# Altium integrated library TI Digital Signal Processor 16-Bit.IntLib: 40 symbols (part 2 of 2)
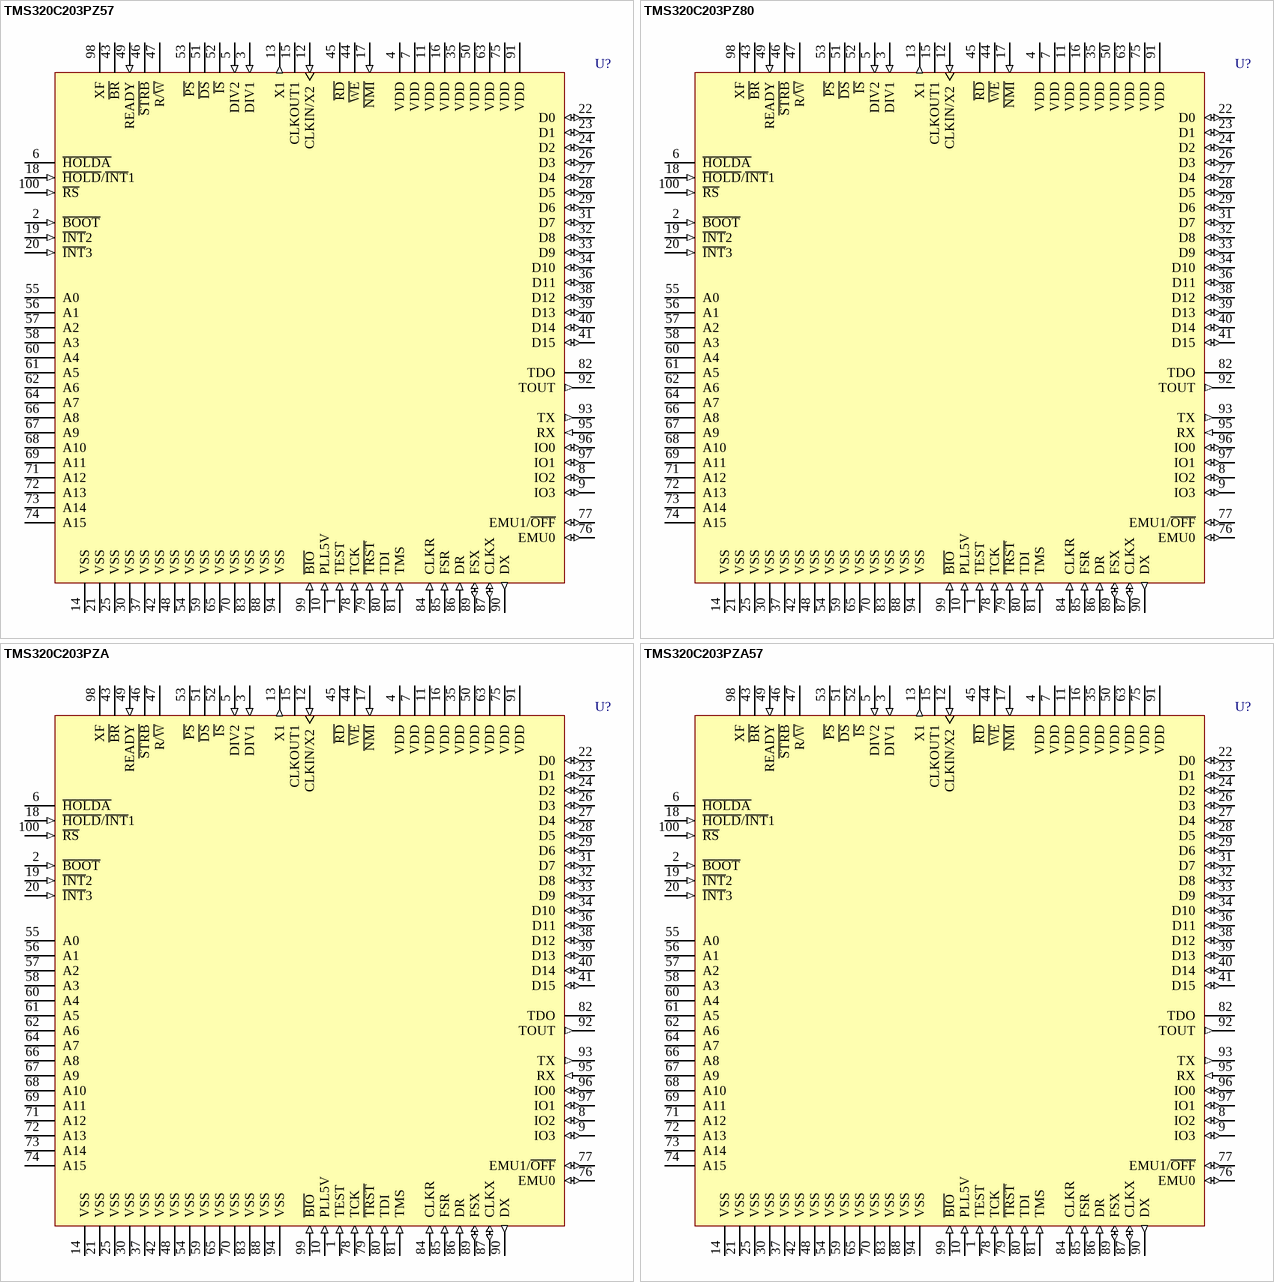
[diagram p11: symbols TMS320C203PZ57 to TMS320C203PZA57]

## TMS320C203PZ80
designator U?
Fixed DSP; Published: 25-Jan-2001; LatestRevisionDate: 13-Apr-2006; LatestRevisionNote: IPC-7351 Footprint Added.; DatasheetVersion: Aug-1998; PackageVersion: Dec-1996; PackageReference: PZ100; Publisher: Altium Limited; PackageDescription: 100-Pin Thin Quad Flat Pack 0.5 mm Pitch; ComponentLink1Description: Manufacturer Link; ComponentLink1URL: http://www.ti.com/; ComponentLink2Description: Datasheet; ComponentLink2URL: http://www-s.ti.com/sc/ds/tms320c203.pdf
footprint PZ100_N (Thin QFP, 100-Leads, Body 14x14mm, Pitch 0.5mm, IPC Medium Density)
footprint PZ100_L (Thin QFP, 100-Leads, Body 14x14mm, Pitch 0.5mm, IPC High Density)
footprint PZ100_M (Thin QFP, 100-Leads, Body 14x14mm, Pitch 0.5mm, IPC Low Density)
3D model TMS320C203-PZ100 (100-Pin Thin Quad Flat Pack 0.5 mm Pitch)
pins: 1 TEST (in), 2 ~{BOOT} (in), 3 DIV1 (in), 4 VDD (power), 5 DIV2 (in), 6 ~{HOLDA} (hiz), 7 VDD (power), 8 IO2 (io), 9 IO3 (io), 10 PLL5V (in), 11 VDD (power), 12 CLKIN/X2 (in), 13 X1 (out), 14 VSS (power), 15 CLKOUT1 (hiz), 16 VDD (power), 17 ~{NMI} (in), 18 ~{HOLD}/~{INT}1 (in), 19 ~{INT}2 (in), 20 ~{INT}3 (in), 21 VSS (power), 22 D0 (io), 23 D1 (io), 24 D2 (io), 25 VSS (power), 26 D3 (io), 27 D4 (io), 28 D5 (io), 29 D6 (io), 30 VSS (power), 31 D7 (io), 32 D8 (io), 33 D9 (io), 34 D10 (io), 35 VDD (power), 36 D11 (io), 37 VSS (power), 38 D12 (io), 39 D13 (io), 40 D14 (io), 41 D15 (io), 42 VSS (power), 43 ~{BR} (hiz), 44 ~{WE} (hiz), 45 ~{RD} (hiz), 46 ~{STRB} (hiz), 47 R/~{W} (hiz), 48 VSS (power), 49 READY (in), 50 VDD (power), 51 ~{DS} (hiz), 52 ~{IS} (hiz), 53 ~{PS} (hiz), 54 VSS (power), 55 A0 (hiz), 56 A1 (hiz), 57 A2 (hiz), 58 A3 (hiz), 59 VSS (power), 60 A4 (hiz), 61 A5 (hiz), 62 A6 (hiz), 63 VDD (power), 64 A7 (hiz), 65 VSS (power), 66 A8 (hiz), 67 A9 (hiz), 68 A10 (hiz), 69 A11 (hiz), 70 VSS (power), 71 A12 (hiz), 72 A13 (hiz), 73 A14 (hiz), 74 A15 (hiz), 75 VDD (power), 76 EMU0 (io), 77 EMU1/~{OFF} (io), 78 TCK (in), 79 ~{TRST} (in), 80 TDI (in), 81 TMS (in), 82 TDO (hiz), 83 VSS (power), 84 CLKR (in), 85 FSR (in), 86 DR (in), 87 CLKX (io), 88 VSS (power), 89 FSX (io), 90 DX (out), 91 VDD (power), 92 TOUT (out), 93 TX (out), 94 VSS (power), 95 RX (in), 96 IO0 (io), 97 IO1 (io), 98 XF (hiz), 99 ~{BIO} (in), 100 ~{RS} (in)

## TMS320C203PZA
designator U?
Fixed DSP; Published: 25-Jan-2001; LatestRevisionDate: 13-Apr-2006; LatestRevisionNote: IPC-7351 Footprint Added.; DatasheetVersion: Aug-1998; PackageVersion: Dec-1996; PackageReference: PZ100; Publisher: Altium Limited; PackageDescription: 100-Pin Thin Quad Flat Pack 0.5 mm Pitch; ComponentLink1Description: Manufacturer Link; ComponentLink1URL: http://www.ti.com/; ComponentLink2Description: Datasheet; ComponentLink2URL: http://www-s.ti.com/sc/ds/tms320c203.pdf
footprint PZ100_N (Thin QFP, 100-Leads, Body 14x14mm, Pitch 0.5mm, IPC Medium Density)
footprint PZ100_L (Thin QFP, 100-Leads, Body 14x14mm, Pitch 0.5mm, IPC High Density)
footprint PZ100_M (Thin QFP, 100-Leads, Body 14x14mm, Pitch 0.5mm, IPC Low Density)
3D model TMS320C203-PZ100 (100-Pin Thin Quad Flat Pack 0.5 mm Pitch)
pins: 1 TEST (in), 2 ~{BOOT} (in), 3 DIV1 (in), 4 VDD (power), 5 DIV2 (in), 6 ~{HOLDA} (hiz), 7 VDD (power), 8 IO2 (io), 9 IO3 (io), 10 PLL5V (in), 11 VDD (power), 12 CLKIN/X2 (in), 13 X1 (out), 14 VSS (power), 15 CLKOUT1 (hiz), 16 VDD (power), 17 ~{NMI} (in), 18 ~{HOLD}/~{INT}1 (in), 19 ~{INT}2 (in), 20 ~{INT}3 (in), 21 VSS (power), 22 D0 (io), 23 D1 (io), 24 D2 (io), 25 VSS (power), 26 D3 (io), 27 D4 (io), 28 D5 (io), 29 D6 (io), 30 VSS (power), 31 D7 (io), 32 D8 (io), 33 D9 (io), 34 D10 (io), 35 VDD (power), 36 D11 (io), 37 VSS (power), 38 D12 (io), 39 D13 (io), 40 D14 (io), 41 D15 (io), 42 VSS (power), 43 ~{BR} (hiz), 44 ~{WE} (hiz), 45 ~{RD} (hiz), 46 ~{STRB} (hiz), 47 R/~{W} (hiz), 48 VSS (power), 49 READY (in), 50 VDD (power), 51 ~{DS} (hiz), 52 ~{IS} (hiz), 53 ~{PS} (hiz), 54 VSS (power), 55 A0 (hiz), 56 A1 (hiz), 57 A2 (hiz), 58 A3 (hiz), 59 VSS (power), 60 A4 (hiz), 61 A5 (hiz), 62 A6 (hiz), 63 VDD (power), 64 A7 (hiz), 65 VSS (power), 66 A8 (hiz), 67 A9 (hiz), 68 A10 (hiz), 69 A11 (hiz), 70 VSS (power), 71 A12 (hiz), 72 A13 (hiz), 73 A14 (hiz), 74 A15 (hiz), 75 VDD (power), 76 EMU0 (io), 77 EMU1/~{OFF} (io), 78 TCK (in), 79 ~{TRST} (in), 80 TDI (in), 81 TMS (in), 82 TDO (hiz), 83 VSS (power), 84 CLKR (in), 85 FSR (in), 86 DR (in), 87 CLKX (io), 88 VSS (power), 89 FSX (io), 90 DX (out), 91 VDD (power), 92 TOUT (out), 93 TX (out), 94 VSS (power), 95 RX (in), 96 IO0 (io), 97 IO1 (io), 98 XF (hiz), 99 ~{BIO} (in), 100 ~{RS} (in)

## TMS320C203PZA57
designator U?
Fixed DSP; Published: 25-Jan-2001; LatestRevisionDate: 13-Apr-2006; LatestRevisionNote: IPC-7351 Footprint Added.; DatasheetVersion: Aug-1998; PackageVersion: Dec-1996; PackageReference: PZ100; Publisher: Altium Limited; PackageDescription: 100-Pin Thin Quad Flat Pack 0.5 mm Pitch; ComponentLink1Description: Manufacturer Link; ComponentLink1URL: http://www.ti.com/; ComponentLink2Description: Datasheet; ComponentLink2URL: http://www-s.ti.com/sc/ds/tms320c203.pdf
footprint PZ100_N (Thin QFP, 100-Leads, Body 14x14mm, Pitch 0.5mm, IPC Medium Density)
footprint PZ100_L (Thin QFP, 100-Leads, Body 14x14mm, Pitch 0.5mm, IPC High Density)
footprint PZ100_M (Thin QFP, 100-Leads, Body 14x14mm, Pitch 0.5mm, IPC Low Density)
3D model TMS320C203-PZ100 (100-Pin Thin Quad Flat Pack 0.5 mm Pitch)
pins: 1 TEST (in), 2 ~{BOOT} (in), 3 DIV1 (in), 4 VDD (power), 5 DIV2 (in), 6 ~{HOLDA} (hiz), 7 VDD (power), 8 IO2 (io), 9 IO3 (io), 10 PLL5V (in), 11 VDD (power), 12 CLKIN/X2 (in), 13 X1 (out), 14 VSS (power), 15 CLKOUT1 (hiz), 16 VDD (power), 17 ~{NMI} (in), 18 ~{HOLD}/~{INT}1 (in), 19 ~{INT}2 (in), 20 ~{INT}3 (in), 21 VSS (power), 22 D0 (io), 23 D1 (io), 24 D2 (io), 25 VSS (power), 26 D3 (io), 27 D4 (io), 28 D5 (io), 29 D6 (io), 30 VSS (power), 31 D7 (io), 32 D8 (io), 33 D9 (io), 34 D10 (io), 35 VDD (power), 36 D11 (io), 37 VSS (power), 38 D12 (io), 39 D13 (io), 40 D14 (io), 41 D15 (io), 42 VSS (power), 43 ~{BR} (hiz), 44 ~{WE} (hiz), 45 ~{RD} (hiz), 46 ~{STRB} (hiz), 47 R/~{W} (hiz), 48 VSS (power), 49 READY (in), 50 VDD (power), 51 ~{DS} (hiz), 52 ~{IS} (hiz), 53 ~{PS} (hiz), 54 VSS (power), 55 A0 (hiz), 56 A1 (hiz), 57 A2 (hiz), 58 A3 (hiz), 59 VSS (power), 60 A4 (hiz), 61 A5 (hiz), 62 A6 (hiz), 63 VDD (power), 64 A7 (hiz), 65 VSS (power), 66 A8 (hiz), 67 A9 (hiz), 68 A10 (hiz), 69 A11 (hiz), 70 VSS (power), 71 A12 (hiz), 72 A13 (hiz), 73 A14 (hiz), 74 A15 (hiz), 75 VDD (power), 76 EMU0 (io), 77 EMU1/~{OFF} (io), 78 TCK (in), 79 ~{TRST} (in), 80 TDI (in), 81 TMS (in), 82 TDO (hiz), 83 VSS (power), 84 CLKR (in), 85 FSR (in), 86 DR (in), 87 CLKX (io), 88 VSS (power), 89 FSX (io), 90 DX (out), 91 VDD (power), 92 TOUT (out), 93 TX (out), 94 VSS (power), 95 RX (in), 96 IO0 (io), 97 IO1 (io), 98 XF (hiz), 99 ~{BIO} (in), 100 ~{RS} (in)

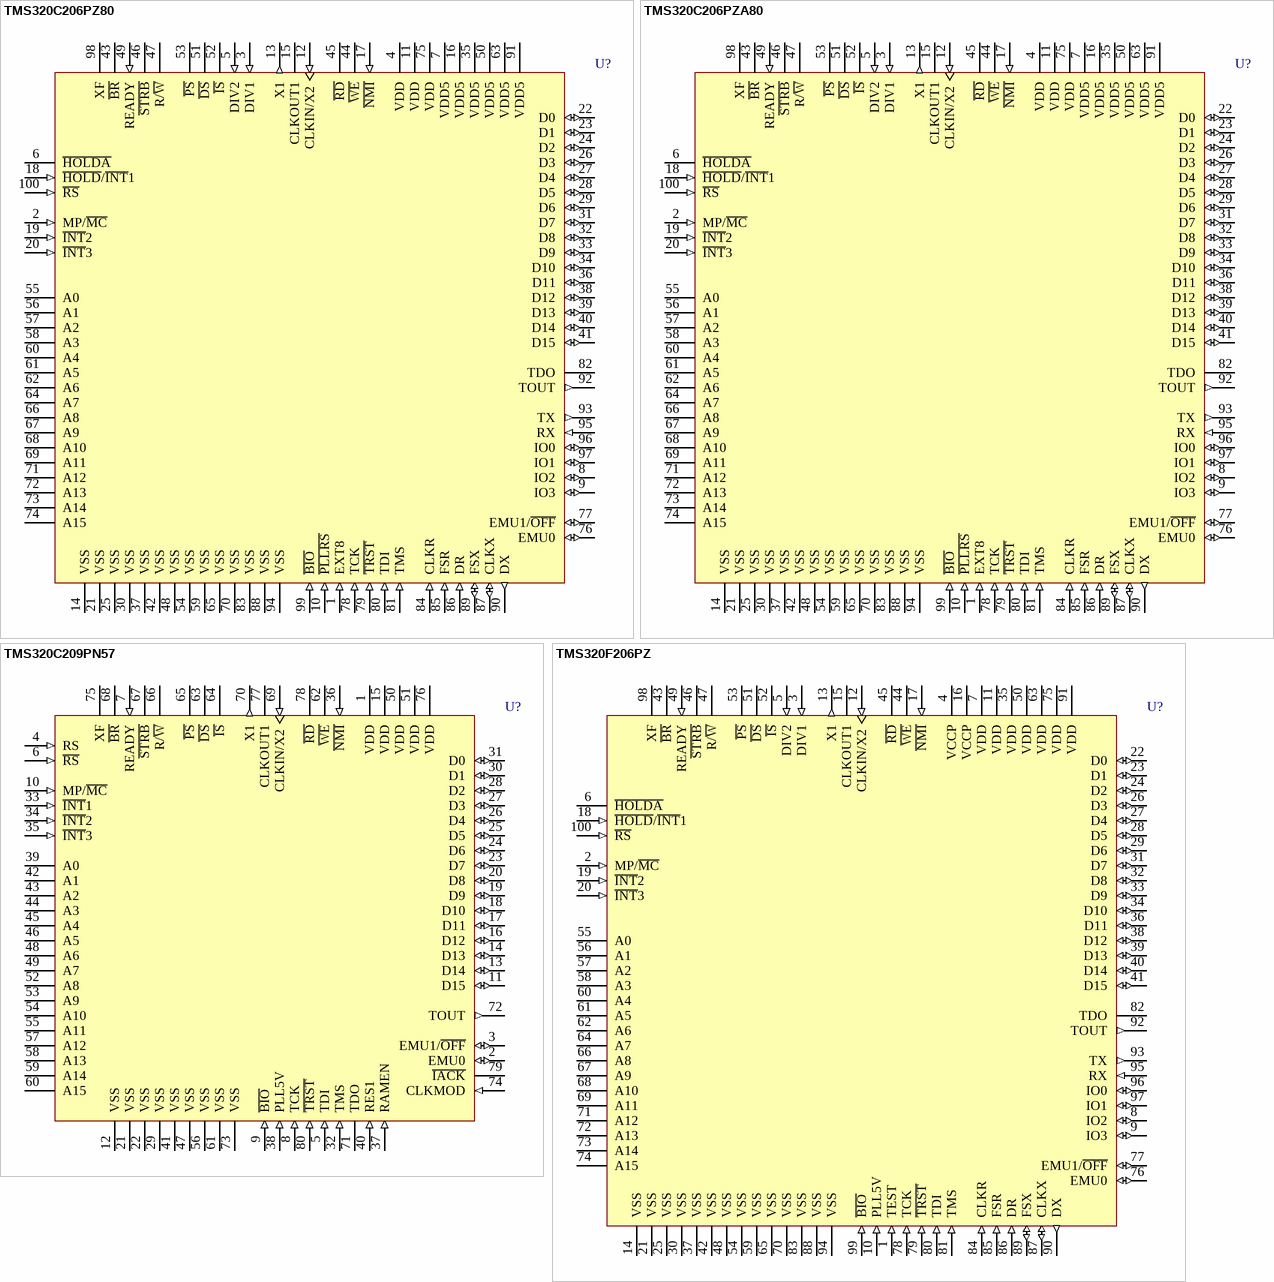
[diagram p7: symbols TMS320C206PZ80 to TMS320F206PZ]

## TMS320C206PZ80
designator U?
Fixed DSP; Note: VDD5 pins 7, 16, 35, 50, 63 and 91 represent I/O supply voltage.; Published: 25-Jan-2001; LatestRevisionDate: 13-Apr-2006; LatestRevisionNote: IPC-7351 Footprint Added.; DatasheetVersion: Jan-1999; PackageVersion: Dec-1996; PackageReference: PZ100; Publisher: Altium Limited; PackageDescription: 100-Pin Thin Quad Flat Pack 0.5 mm Pitch; ComponentLink1Description: Manufacturer Link; ComponentLink1URL: http://www.ti.com/
footprint PZ100_N (Thin QFP, 100-Leads, Body 14x14mm, Pitch 0.5mm, IPC Medium Density)
footprint PZ100_L (Thin QFP, 100-Leads, Body 14x14mm, Pitch 0.5mm, IPC High Density)
footprint PZ100_M (Thin QFP, 100-Leads, Body 14x14mm, Pitch 0.5mm, IPC Low Density)
3D model TMS320C206-PZ100 (100-Pin Thin Quad Flat Pack 0.5 mm Pitch)
pins: 1 EXT8 (in), 2 MP/~{MC} (in), 3 DIV1 (in), 4 VDD (power), 5 DIV2 (in), 6 ~{HOLDA} (hiz), 7 VDD5 (power), 8 IO2 (io), 9 IO3 (io), 10 ~{PLLRS} (in), 11 VDD (power), 12 CLKIN/X2 (in), 13 X1 (out), 14 VSS (power), 15 CLKOUT1 (hiz), 16 VDD5 (power), 17 ~{NMI} (in), 18 ~{HOLD}/~{INT}1 (in), 19 ~{INT}2 (in), 20 ~{INT}3 (in), 21 VSS (power), 22 D0 (io), 23 D1 (io), 24 D2 (io), 25 VSS (power), 26 D3 (io), 27 D4 (io), 28 D5 (io), 29 D6 (io), 30 VSS (power), 31 D7 (io), 32 D8 (io), 33 D9 (io), 34 D10 (io), 35 VDD5 (power), 36 D11 (io), 37 VSS (power), 38 D12 (io), 39 D13 (io), 40 D14 (io), 41 D15 (io), 42 VSS (power), 43 ~{BR} (hiz), 44 ~{WE} (hiz), 45 ~{RD} (hiz), 46 ~{STRB} (hiz), 47 R/~{W} (hiz), 48 VSS (power), 49 READY (in), 50 VDD5 (power), 51 ~{DS} (hiz), 52 ~{IS} (hiz), 53 ~{PS} (hiz), 54 VSS (power), 55 A0 (hiz), 56 A1 (hiz), 57 A2 (hiz), 58 A3 (hiz), 59 VSS (power), 60 A4 (hiz), 61 A5 (hiz), 62 A6 (hiz), 63 VDD5 (power), 64 A7 (hiz), 65 VSS (power), 66 A8 (hiz), 67 A9 (hiz), 68 A10 (hiz), 69 A11 (hiz), 70 VSS (power), 71 A12 (hiz), 72 A13 (hiz), 73 A14 (hiz), 74 A15 (hiz), 75 VDD (power), 76 EMU0 (io), 77 EMU1/~{OFF} (io), 78 TCK (in), 79 ~{TRST} (in), 80 TDI (in), 81 TMS (in), 82 TDO (hiz), 83 VSS (power), 84 CLKR (in), 85 FSR (in), 86 DR (in), 87 CLKX (io), 88 VSS (power), 89 FSX (io), 90 DX (out), 91 VDD5 (power), 92 TOUT (out), 93 TX (out), 94 VSS (power), 95 RX (in), 96 IO0 (io), 97 IO1 (io), 98 XF (hiz), 99 ~{BIO} (in), 100 ~{RS} (in)

## TMS320C206PZA80
designator U?
Fixed DSP; Note: VDD5 pins 7, 16, 35, 50, 63 and 91 represent I/O supply voltage.; Published: 25-Jan-2001; LatestRevisionDate: 13-Apr-2006; LatestRevisionNote: IPC-7351 Footprint Added.; DatasheetVersion: Jan-1999; PackageVersion: Dec-1996; PackageReference: PZ100; Publisher: Altium Limited; PackageDescription: 100-Pin Thin Quad Flat Pack 0.5 mm Pitch; ComponentLink1Description: Manufacturer Link; ComponentLink1URL: http://www.ti.com/
footprint PZ100_N (Thin QFP, 100-Leads, Body 14x14mm, Pitch 0.5mm, IPC Medium Density)
footprint PZ100_L (Thin QFP, 100-Leads, Body 14x14mm, Pitch 0.5mm, IPC High Density)
footprint PZ100_M (Thin QFP, 100-Leads, Body 14x14mm, Pitch 0.5mm, IPC Low Density)
3D model TMS320C206-PZ100 (100-Pin Thin Quad Flat Pack 0.5 mm Pitch)
pins: 1 EXT8 (in), 2 MP/~{MC} (in), 3 DIV1 (in), 4 VDD (power), 5 DIV2 (in), 6 ~{HOLDA} (hiz), 7 VDD5 (power), 8 IO2 (io), 9 IO3 (io), 10 ~{PLLRS} (in), 11 VDD (power), 12 CLKIN/X2 (in), 13 X1 (out), 14 VSS (power), 15 CLKOUT1 (hiz), 16 VDD5 (power), 17 ~{NMI} (in), 18 ~{HOLD}/~{INT}1 (in), 19 ~{INT}2 (in), 20 ~{INT}3 (in), 21 VSS (power), 22 D0 (io), 23 D1 (io), 24 D2 (io), 25 VSS (power), 26 D3 (io), 27 D4 (io), 28 D5 (io), 29 D6 (io), 30 VSS (power), 31 D7 (io), 32 D8 (io), 33 D9 (io), 34 D10 (io), 35 VDD5 (power), 36 D11 (io), 37 VSS (power), 38 D12 (io), 39 D13 (io), 40 D14 (io), 41 D15 (io), 42 VSS (power), 43 ~{BR} (hiz), 44 ~{WE} (hiz), 45 ~{RD} (hiz), 46 ~{STRB} (hiz), 47 R/~{W} (hiz), 48 VSS (power), 49 READY (in), 50 VDD5 (power), 51 ~{DS} (hiz), 52 ~{IS} (hiz), 53 ~{PS} (hiz), 54 VSS (power), 55 A0 (hiz), 56 A1 (hiz), 57 A2 (hiz), 58 A3 (hiz), 59 VSS (power), 60 A4 (hiz), 61 A5 (hiz), 62 A6 (hiz), 63 VDD5 (power), 64 A7 (hiz), 65 VSS (power), 66 A8 (hiz), 67 A9 (hiz), 68 A10 (hiz), 69 A11 (hiz), 70 VSS (power), 71 A12 (hiz), 72 A13 (hiz), 73 A14 (hiz), 74 A15 (hiz), 75 VDD (power), 76 EMU0 (io), 77 EMU1/~{OFF} (io), 78 TCK (in), 79 ~{TRST} (in), 80 TDI (in), 81 TMS (in), 82 TDO (hiz), 83 VSS (power), 84 CLKR (in), 85 FSR (in), 86 DR (in), 87 CLKX (io), 88 VSS (power), 89 FSX (io), 90 DX (out), 91 VDD5 (power), 92 TOUT (out), 93 TX (out), 94 VSS (power), 95 RX (in), 96 IO0 (io), 97 IO1 (io), 98 XF (hiz), 99 ~{BIO} (in), 100 ~{RS} (in)

## TMS320C209PN57
designator U?
Fixed DSP; Published: 25-Jan-2001; LatestRevisionDate: 13-Apr-2006; LatestRevisionNote: IPC-7351 Footprint Added.; DatasheetVersion: Aug-1998; PackageVersion: Dec-1996; PackageReference: PN080; Publisher: Altium Limited; PackageDescription: 80-Pin Thin Quad Flat Pack 0.5 mm Pitch; ComponentLink1Description: Manufacturer Link; ComponentLink1URL: http://www.ti.com/; ComponentLink2Description: Datasheet; ComponentLink2URL: http://www-s.ti.com/sc/ds/tms320c203.pdf
footprint PN080_N (Thin QFP, 80-Leads, Body 12x12mm, Pitch 0.5mm, IPC Medium Density)
footprint PN080_L (Thin QFP, 80-Leads, Body 12x12mm, Pitch 0.5mm, IPC High Density)
footprint PN080_M (Thin QFP, 80-Leads, Body 12x12mm, Pitch 0.5mm, IPC Low Density)
3D model TMS320C209-PN080 (80-Pin Thin Quad Flat Pack 0.5 mm Pitch)
pins: 1 VDD (power), 2 EMU0 (io), 3 EMU1/~{OFF} (io), 4 RS (in), 5 TDI (in), 6 ~{RS} (in), 7 READY (in), 8 TCK (in), 9 ~{BIO} (in), 10 MP/~{MC} (in), 11 D15 (io), 12 VSS (power), 13 D14 (io), 14 D13 (io), 15 VDD (power), 16 D12 (io), 17 D11 (io), 18 D10 (io), 19 D9 (io), 20 D8 (io), 21 VSS (power), 22 VSS (power), 23 D7 (io), 24 D6 (io), 25 D5 (io), 26 D4 (io), 27 D3 (io), 28 D2 (io), 29 VSS (power), 30 D1 (io), 31 D0 (io), 32 TMS (in), 33 ~{INT}1 (in), 34 ~{INT}2 (in), 35 ~{INT}3 (in), 36 ~{NMI} (in), 37 RAMEN (in), 38 PLL5V (in), 39 A0 (hiz), 40 RES1 (in), 41 VSS (power), 42 A1 (hiz), 43 A2 (hiz), 44 A3 (hiz), 45 A4 (hiz), 46 A5 (hiz), 47 VSS (power), 48 A6 (hiz), 49 A7 (hiz), 50 VDD (power), 51 VDD (power), 52 A8 (hiz), 53 A9 (hiz), 54 A10 (hiz), 55 A11 (hiz), 56 VSS (power), 57 A12 (hiz), 58 A13 (hiz), 59 A14 (hiz), 60 A15 (hiz), 61 VSS (power), 62 ~{WE} (hiz), 63 ~{DS} (hiz), 64 ~{IS} (hiz), 65 ~{PS} (hiz), 66 R/~{W} (hiz), 67 ~{STRB} (hiz), 68 ~{BR} (hiz), 69 CLKIN/X2 (in), 70 X1 (out), 71 TDO (hiz), 72 TOUT (out), 73 VSS (power), 74 CLKMOD (in), 75 XF (hiz), 76 VDD (power), 77 CLKOUT1 (hiz), 78 ~{RD} (hiz), 79 ~{IACK} (hiz), 80 ~{TRST} (in)

## TMS320F206PZ
designator U?
Fixed DSP; Published: 25-Jan-2001; LatestRevisionDate: 13-Apr-2006; LatestRevisionNote: IPC-7351 Footprint Added.; DatasheetVersion: Apr-1998; PackageVersion: Dec-1996; PackageReference: PZ100; Publisher: Altium Limited; PackageDescription: 100-Pin Thin Quad Flat Pack 0.5 mm Pitch; ComponentLink1Description: Manufacturer Link; ComponentLink1URL: http://www.ti.com/; ComponentLink2Description: Datasheet; ComponentLink2URL: http://www-s.ti.com/sc/ds/tms320f206.pdf
footprint PZ100_N (Thin QFP, 100-Leads, Body 14x14mm, Pitch 0.5mm, IPC Medium Density)
footprint PZ100_L (Thin QFP, 100-Leads, Body 14x14mm, Pitch 0.5mm, IPC High Density)
footprint PZ100_M (Thin QFP, 100-Leads, Body 14x14mm, Pitch 0.5mm, IPC Low Density)
3D model TMS320F206-PZ100 (100-Pin Thin Quad Flat Pack 0.5 mm Pitch)
pins: 1 TEST (in), 2 MP/~{MC} (in), 3 DIV1 (in), 4 VCCP (power), 5 DIV2 (in), 6 ~{HOLDA} (hiz), 7 VDD (power), 8 IO2 (io), 9 IO3 (io), 10 PLL5V (in), 11 VDD (power), 12 CLKIN/X2 (in), 13 X1 (out), 14 VSS (power), 15 CLKOUT1 (hiz), 16 VCCP (power), 17 ~{NMI} (in), 18 ~{HOLD}/~{INT}1 (in), 19 ~{INT}2 (in), 20 ~{INT}3 (in), 21 VSS (power), 22 D0 (io), 23 D1 (io), 24 D2 (io), 25 VSS (power), 26 D3 (io), 27 D4 (io), 28 D5 (io), 29 D6 (io), 30 VSS (power), 31 D7 (io), 32 D8 (io), 33 D9 (io), 34 D10 (io), 35 VDD (power), 36 D11 (io), 37 VSS (power), 38 D12 (io), 39 D13 (io), 40 D14 (io), 41 D15 (io), 42 VSS (power), 43 ~{BR} (hiz), 44 ~{WE} (hiz), 45 ~{RD} (hiz), 46 ~{STRB} (hiz), 47 R/~{W} (hiz), 48 VSS (power), 49 READY (in), 50 VDD (power), 51 ~{DS} (hiz), 52 ~{IS} (hiz), 53 ~{PS} (hiz), 54 VSS (power), 55 A0 (hiz), 56 A1 (hiz), 57 A2 (hiz), 58 A3 (hiz), 59 VSS (power), 60 A4 (hiz), 61 A5 (hiz), 62 A6 (hiz), 63 VDD (power), 64 A7 (hiz), 65 VSS (power), 66 A8 (hiz), 67 A9 (hiz), 68 A10 (hiz), 69 A11 (hiz), 70 VSS (power), 71 A12 (hiz), 72 A13 (hiz), 73 A14 (hiz), 74 A15 (hiz), 75 VDD (power), 76 EMU0 (io), 77 EMU1/~{OFF} (io), 78 TCK (in), 79 ~{TRST} (in), 80 TDI (in), 81 TMS (in), 82 TDO (hiz), 83 VSS (power), 84 CLKR (in), 85 FSR (in), 86 DR (in), 87 CLKX (io), 88 VSS (power), 89 FSX (io), 90 DX (out), 91 VDD (power), 92 TOUT (out), 93 TX (out), 94 VSS (power), 95 RX (in), 96 IO0 (io), 97 IO1 (io), 98 XF (hiz), 99 ~{BIO} (in), 100 ~{RS} (in)

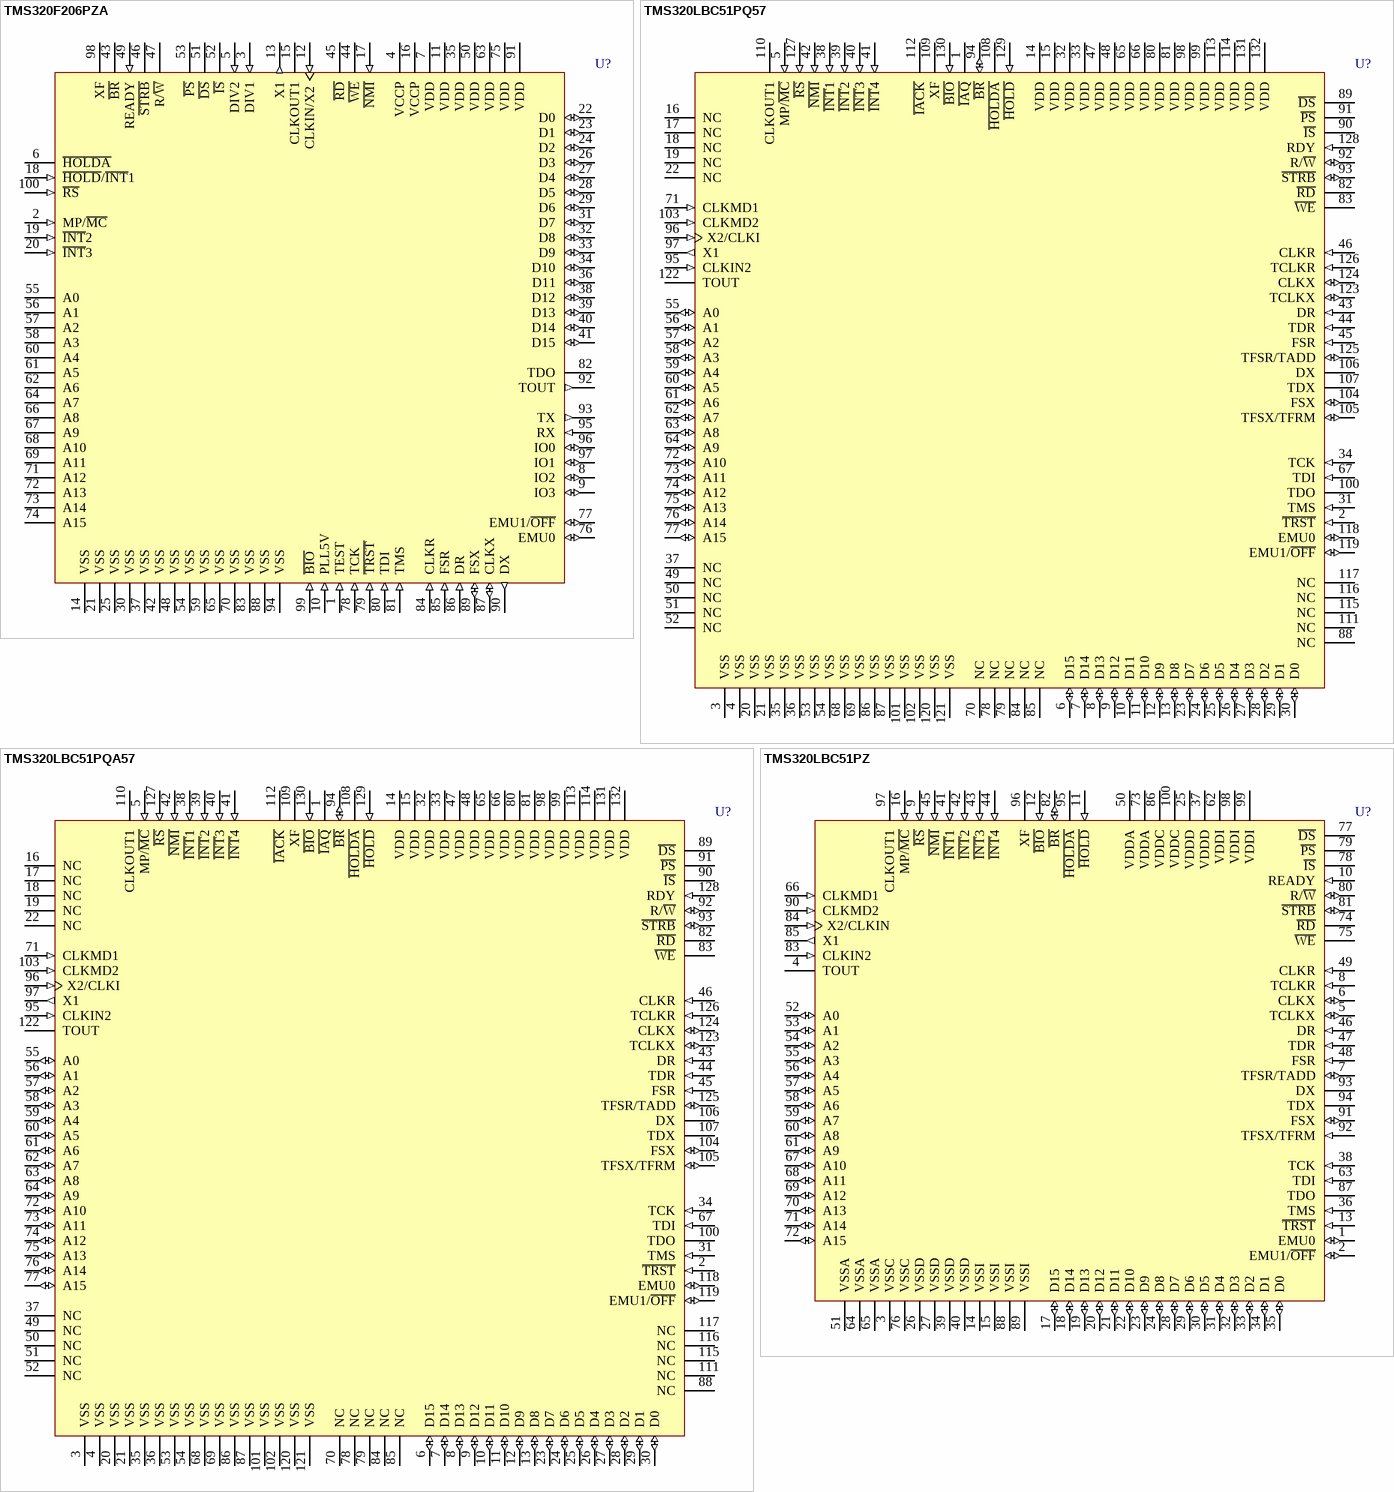
[diagram p8: symbols TMS320F206PZA to TMS320LBC51PZ]

## TMS320F206PZA
designator U?
Fixed DSP; Published: 25-Jan-2001; LatestRevisionDate: 13-Apr-2006; LatestRevisionNote: IPC-7351 Footprint Added.; DatasheetVersion: Apr-1998; PackageVersion: Dec-1996; PackageReference: PZ100; Publisher: Altium Limited; PackageDescription: 100-Pin Thin Quad Flat Pack 0.5 mm Pitch; ComponentLink1Description: Manufacturer Link; ComponentLink1URL: http://www.ti.com/; ComponentLink2Description: Datasheet; ComponentLink2URL: http://www-s.ti.com/sc/ds/tms320f206.pdf
footprint PZ100_N (Thin QFP, 100-Leads, Body 14x14mm, Pitch 0.5mm, IPC Medium Density)
footprint PZ100_L (Thin QFP, 100-Leads, Body 14x14mm, Pitch 0.5mm, IPC High Density)
footprint PZ100_M (Thin QFP, 100-Leads, Body 14x14mm, Pitch 0.5mm, IPC Low Density)
3D model TMS320F206-PZ100 (100-Pin Thin Quad Flat Pack 0.5 mm Pitch)
pins: 1 TEST (in), 2 MP/~{MC} (in), 3 DIV1 (in), 4 VCCP (power), 5 DIV2 (in), 6 ~{HOLDA} (hiz), 7 VDD (power), 8 IO2 (io), 9 IO3 (io), 10 PLL5V (in), 11 VDD (power), 12 CLKIN/X2 (in), 13 X1 (out), 14 VSS (power), 15 CLKOUT1 (hiz), 16 VCCP (power), 17 ~{NMI} (in), 18 ~{HOLD}/~{INT}1 (in), 19 ~{INT}2 (in), 20 ~{INT}3 (in), 21 VSS (power), 22 D0 (io), 23 D1 (io), 24 D2 (io), 25 VSS (power), 26 D3 (io), 27 D4 (io), 28 D5 (io), 29 D6 (io), 30 VSS (power), 31 D7 (io), 32 D8 (io), 33 D9 (io), 34 D10 (io), 35 VDD (power), 36 D11 (io), 37 VSS (power), 38 D12 (io), 39 D13 (io), 40 D14 (io), 41 D15 (io), 42 VSS (power), 43 ~{BR} (hiz), 44 ~{WE} (hiz), 45 ~{RD} (hiz), 46 ~{STRB} (hiz), 47 R/~{W} (hiz), 48 VSS (power), 49 READY (in), 50 VDD (power), 51 ~{DS} (hiz), 52 ~{IS} (hiz), 53 ~{PS} (hiz), 54 VSS (power), 55 A0 (hiz), 56 A1 (hiz), 57 A2 (hiz), 58 A3 (hiz), 59 VSS (power), 60 A4 (hiz), 61 A5 (hiz), 62 A6 (hiz), 63 VDD (power), 64 A7 (hiz), 65 VSS (power), 66 A8 (hiz), 67 A9 (hiz), 68 A10 (hiz), 69 A11 (hiz), 70 VSS (power), 71 A12 (hiz), 72 A13 (hiz), 73 A14 (hiz), 74 A15 (hiz), 75 VDD (power), 76 EMU0 (io), 77 EMU1/~{OFF} (io), 78 TCK (in), 79 ~{TRST} (in), 80 TDI (in), 81 TMS (in), 82 TDO (hiz), 83 VSS (power), 84 CLKR (in), 85 FSR (in), 86 DR (in), 87 CLKX (io), 88 VSS (power), 89 FSX (io), 90 DX (out), 91 VDD (power), 92 TOUT (out), 93 TX (out), 94 VSS (power), 95 RX (in), 96 IO0 (io), 97 IO1 (io), 98 XF (hiz), 99 ~{BIO} (in), 100 ~{RS} (in)

## TMS320LBC51PQ57
designator U?
Fixed DSP; ComponentAvailability: Obsolete; Published: 25-Jan-2001; LatestRevisionDate: 17-Jul-2002; LatestRevisionNote: Re-released for DXP Platform.; DatasheetVersion: Apr-1996; PackageVersion: Nov-1995; PackageReference: PQ132; Publisher: Altium Limited; PackageDescription: PQFP; 132 Leads; Body 24 x 24 mm; Pitch 0.635 mm; Code_JEDEC: MO-069; ComponentLink1Description: Manufacturer Link; ComponentLink1URL: http://www.ti.com/; ComponentLink2Description: Datasheet; ComponentLink2URL: http://www-s.ti.com/sc/ds/tms320lbc51.pdf
footprint PQ132 (PQFP; 132 Leads; Body 24 x 24 mm; Pitch 0.635 mm)
pins: 1 ~{IAQ} (hiz), 2 ~{TRST} (in), 3 VSS (power), 4 VSS (power), 5 MP/~{MC} (in), 6 D15 (io), 7 D14 (io), 8 D13 (io), 9 D12 (io), 10 D11 (io), 11 D10 (io), 12 D9 (io), 13 D8 (io), 14 VDD (power), 15 VDD (power), 16 NC, 17 NC, 18 NC, 19 NC, 20 VSS (power), 21 VSS (power), 22 NC, 23 D7 (io), 24 D6 (io), 25 D5 (io), 26 D4 (io), 27 D3 (io), 28 D2 (io), 29 D1 (io), 30 D0 (io), 31 TMS (in), 32 VDD (power), 33 VDD (power), 34 TCK (in), 35 VSS (power), 36 VSS (power), 37 NC, 38 ~{INT}1 (in), 39 ~{INT}2 (in), 40 ~{INT}3 (in), 41 ~{INT}4 (in), 42 ~{NMI} (in), 43 DR (in), 44 TDR (in), 45 FSR (in), 46 CLKR (in), 47 VDD (power), 48 VDD (power), 49 NC, 50 NC, 51 NC, 52 NC, 53 VSS (power), 54 VSS (power), 55 A0 (io), 56 A1 (io), 57 A2 (io), 58 A3 (io), 59 A4 (io), 60 A5 (io), 61 A6 (io), 62 A7 (io), 63 A8 (io), 64 A9 (io), 65 VDD (power), 66 VDD (power), 67 TDI (in), 68 VSS (power), 69 VSS (power), 70 NC, 71 CLKMD1 (in), 72 A10 (io), 73 A11 (io), 74 A12 (io), 75 A13 (io), 76 A14 (io), 77 A15 (io), 78 NC, 79 NC, 80 VDD (power), 81 VDD (power), 82 ~{RD} (hiz), 83 ~{WE} (hiz), 84 NC, 85 NC, 86 VSS (power), 87 VSS (power), 88 NC, 89 ~{DS} (hiz), 90 ~{IS} (hiz), 91 ~{PS} (hiz), 92 R/~{W} (io), 93 ~{STRB} (io), 94 ~{BR} (io), 95 CLKIN2 (in), 96 X2/CLKI (in), 97 X1 (out), 98 VDD (power), 99 VDD (power), 100 TDO (hiz), 101 VSS (power), 102 VSS (power), 103 CLKMD2 (in), 104 FSX (io), 105 TFSX/TFRM (io), 106 DX (hiz), 107 TDX (hiz), 108 ~{HOLDA} (hiz), 109 XF (hiz), 110 CLKOUT1 (hiz), 111 NC, 112 ~{IACK} (hiz), 113 VDD (power), 114 VDD (power), 115 NC, 116 NC, 117 NC, 118 EMU0 (io), 119 EMU1/~{OFF} (io), 120 VSS (power), 121 VSS (power), 122 TOUT (hiz), 123 TCLKX (io), 124 CLKX (io), 125 TFSR/TADD (io), 126 TCLKR (in), 127 ~{RS} (in), 128 RDY (in), 129 ~{HOLD} (in), 130 ~{BIO} (in), 131 VDD (power), 132 VDD (power)

## TMS320LBC51PQA57
designator U?
Fixed DSP; ComponentAvailability: Not For New Designs; Published: 25-Jan-2001; LatestRevisionDate: 17-Jul-2002; LatestRevisionNote: Re-released for DXP Platform.; DatasheetVersion: Apr-1996; PackageVersion: Nov-1995; PackageReference: PQ132; Publisher: Altium Limited; PackageDescription: PQFP; 132 Leads; Body 24 x 24 mm; Pitch 0.635 mm; Code_JEDEC: MO-069; ComponentLink1Description: Manufacturer Link; ComponentLink1URL: http://www.ti.com/; ComponentLink2Description: Datasheet; ComponentLink2URL: http://www-s.ti.com/sc/ds/tms320lbc51.pdf
footprint PQ132 (PQFP; 132 Leads; Body 24 x 24 mm; Pitch 0.635 mm)
pins: 1 ~{IAQ} (hiz), 2 ~{TRST} (in), 3 VSS (power), 4 VSS (power), 5 MP/~{MC} (in), 6 D15 (io), 7 D14 (io), 8 D13 (io), 9 D12 (io), 10 D11 (io), 11 D10 (io), 12 D9 (io), 13 D8 (io), 14 VDD (power), 15 VDD (power), 16 NC, 17 NC, 18 NC, 19 NC, 20 VSS (power), 21 VSS (power), 22 NC, 23 D7 (io), 24 D6 (io), 25 D5 (io), 26 D4 (io), 27 D3 (io), 28 D2 (io), 29 D1 (io), 30 D0 (io), 31 TMS (in), 32 VDD (power), 33 VDD (power), 34 TCK (in), 35 VSS (power), 36 VSS (power), 37 NC, 38 ~{INT}1 (in), 39 ~{INT}2 (in), 40 ~{INT}3 (in), 41 ~{INT}4 (in), 42 ~{NMI} (in), 43 DR (in), 44 TDR (in), 45 FSR (in), 46 CLKR (in), 47 VDD (power), 48 VDD (power), 49 NC, 50 NC, 51 NC, 52 NC, 53 VSS (power), 54 VSS (power), 55 A0 (io), 56 A1 (io), 57 A2 (io), 58 A3 (io), 59 A4 (io), 60 A5 (io), 61 A6 (io), 62 A7 (io), 63 A8 (io), 64 A9 (io), 65 VDD (power), 66 VDD (power), 67 TDI (in), 68 VSS (power), 69 VSS (power), 70 NC, 71 CLKMD1 (in), 72 A10 (io), 73 A11 (io), 74 A12 (io), 75 A13 (io), 76 A14 (io), 77 A15 (io), 78 NC, 79 NC, 80 VDD (power), 81 VDD (power), 82 ~{RD} (hiz), 83 ~{WE} (hiz), 84 NC, 85 NC, 86 VSS (power), 87 VSS (power), 88 NC, 89 ~{DS} (hiz), 90 ~{IS} (hiz), 91 ~{PS} (hiz), 92 R/~{W} (io), 93 ~{STRB} (io), 94 ~{BR} (io), 95 CLKIN2 (in), 96 X2/CLKI (in), 97 X1 (out), 98 VDD (power), 99 VDD (power), 100 TDO (hiz), 101 VSS (power), 102 VSS (power), 103 CLKMD2 (in), 104 FSX (io), 105 TFSX/TFRM (io), 106 DX (hiz), 107 TDX (hiz), 108 ~{HOLDA} (hiz), 109 XF (hiz), 110 CLKOUT1 (hiz), 111 NC, 112 ~{IACK} (hiz), 113 VDD (power), 114 VDD (power), 115 NC, 116 NC, 117 NC, 118 EMU0 (io), 119 EMU1/~{OFF} (io), 120 VSS (power), 121 VSS (power), 122 TOUT (hiz), 123 TCLKX (io), 124 CLKX (io), 125 TFSR/TADD (io), 126 TCLKR (in), 127 ~{RS} (in), 128 RDY (in), 129 ~{HOLD} (in), 130 ~{BIO} (in), 131 VDD (power), 132 VDD (power)

## TMS320LBC51PZ
designator U?
Fixed DSP; ComponentAvailability: Obsolete; Published: 25-Jan-2001; LatestRevisionDate: 13-Apr-2006; LatestRevisionNote: IPC-7351 Footprint Added.; DatasheetVersion: Apr-1996; PackageVersion: Dec-1996; PackageReference: PZ100; Publisher: Altium Limited; PackageDescription: 100-Pin Thin Quad Flat Pack 0.5 mm Pitch; ComponentLink1Description: Manufacturer Link; ComponentLink1URL: http://www.ti.com/; ComponentLink2Description: Datasheet; ComponentLink2URL: http://www-s.ti.com/sc/ds/tms320lbc51.pdf
footprint PZ100_N (Thin QFP, 100-Leads, Body 14x14mm, Pitch 0.5mm, IPC Medium Density)
footprint PZ100_L (Thin QFP, 100-Leads, Body 14x14mm, Pitch 0.5mm, IPC High Density)
footprint PZ100_M (Thin QFP, 100-Leads, Body 14x14mm, Pitch 0.5mm, IPC Low Density)
3D model TMS320LBC51-PZ100 (100-Pin Thin Quad Flat Pack 0.5 mm Pitch)
pins: 1 EMU0 (io), 2 EMU1/~{OFF} (io), 3 VSSC (power), 4 TOUT (hiz), 5 TCLKX (io), 6 CLKX (io), 7 TFSR/TADD (io), 8 TCLKR (in), 9 ~{RS} (in), 10 READY (in), 11 ~{HOLD} (in), 12 ~{BIO} (in), 13 ~{TRST} (in), 14 VSSI (power), 15 VSSI (power), 16 MP/~{MC} (in), 17 D15 (io), 18 D14 (io), 19 D13 (io), 20 D12 (io), 21 D11 (io), 22 D10 (io), 23 D9 (io), 24 D8 (io), 25 VDDD (power), 26 VSSD (power), 27 VSSD (power), 28 D7 (io), 29 D6 (io), 30 D5 (io), 31 D4 (io), 32 D3 (io), 33 D2 (io), 34 D1 (io), 35 D0 (io), 36 TMS (in), 37 VDDD (power), 38 TCK (in), 39 VSSD (power), 40 VSSD (power), 41 ~{INT}1 (in), 42 ~{INT}2 (in), 43 ~{INT}3 (in), 44 ~{INT}4 (in), 45 ~{NMI} (in), 46 DR (in), 47 TDR (in), 48 FSR (in), 49 CLKR (in), 50 VDDA (power), 51 VSSA (power), 52 A0 (io), 53 A1 (io), 54 A2 (io), 55 A3 (io), 56 A4 (io), 57 A5 (io), 58 A6 (io), 59 A7 (io), 60 A8 (io), 61 A9 (io), 62 VDDI (power), 63 TDI (in), 64 VSSA (power), 65 VSSA (power), 66 CLKMD1 (in), 67 A10 (io), 68 A11 (io), 69 A12 (io), 70 A13 (io), 71 A14 (io), 72 A15 (io), 73 VDDA (power), 74 ~{RD} (hiz), 75 ~{WE} (hiz), 76 VSSC (power), 77 ~{DS} (hiz), 78 ~{IS} (hiz), 79 ~{PS} (hiz), 80 R/~{W} (io), 81 ~{STRB} (io), 82 ~{BR} (io), 83 CLKIN2 (in), 84 X2/CLKIN (in), 85 X1 (out), 86 VDDC (power), 87 TDO (hiz), 88 VSSI (power), 89 VSSI (power), 90 CLKMD2 (in), 91 FSX (io), 92 TFSX/TFRM (in), 93 DX (hiz), 94 TDX (hiz), 95 ~{HOLDA} (hiz), 96 XF (hiz), 97 CLKOUT1 (hiz), 98 VDDI (power), 99 VDDI (power), 100 VDDC (power)

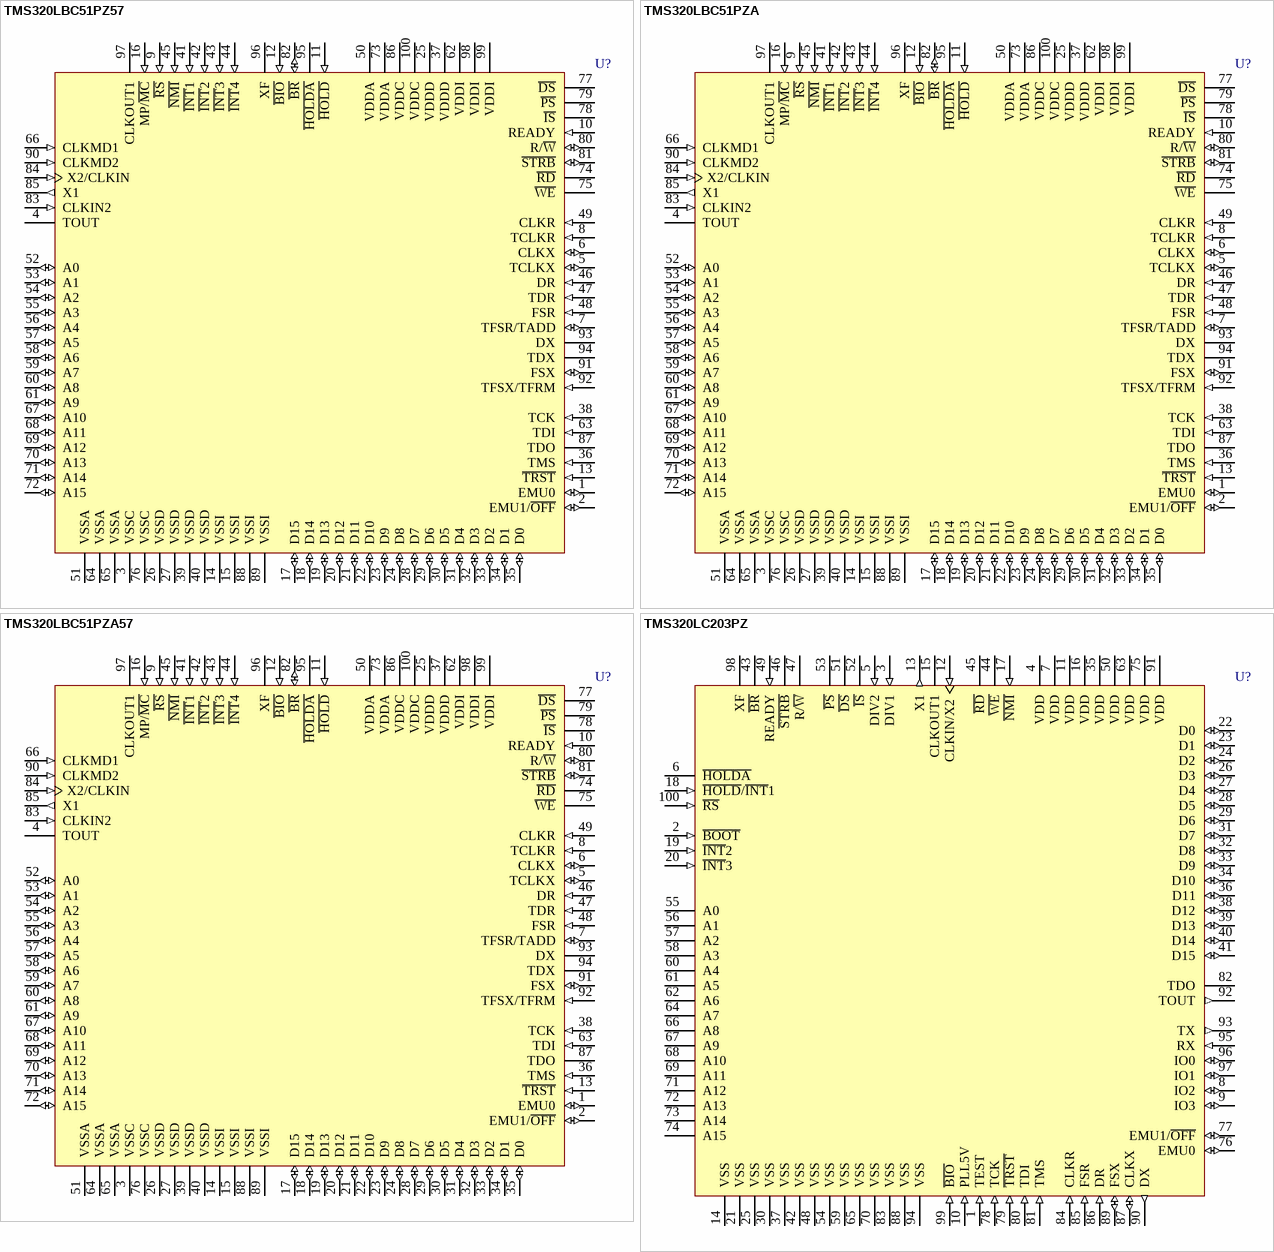
[diagram p9: symbols TMS320LBC51PZ57 to TMS320LC203PZ]

## TMS320LBC51PZ57
designator U?
Fixed DSP; ComponentAvailability: Obsolete; Published: 25-Jan-2001; LatestRevisionDate: 13-Apr-2006; LatestRevisionNote: IPC-7351 Footprint Added.; DatasheetVersion: Apr-1996; PackageVersion: Dec-1996; PackageReference: PZ100; Publisher: Altium Limited; PackageDescription: 100-Pin Thin Quad Flat Pack 0.5 mm Pitch; ComponentLink1Description: Manufacturer Link; ComponentLink1URL: http://www.ti.com/; ComponentLink2Description: Datasheet; ComponentLink2URL: http://www-s.ti.com/sc/ds/tms320lbc51.pdf
footprint PZ100_N (Thin QFP, 100-Leads, Body 14x14mm, Pitch 0.5mm, IPC Medium Density)
footprint PZ100_L (Thin QFP, 100-Leads, Body 14x14mm, Pitch 0.5mm, IPC High Density)
footprint PZ100_M (Thin QFP, 100-Leads, Body 14x14mm, Pitch 0.5mm, IPC Low Density)
3D model TMS320LBC51-PZ100 (100-Pin Thin Quad Flat Pack 0.5 mm Pitch)
pins: 1 EMU0 (io), 2 EMU1/~{OFF} (io), 3 VSSC (power), 4 TOUT (hiz), 5 TCLKX (io), 6 CLKX (io), 7 TFSR/TADD (io), 8 TCLKR (in), 9 ~{RS} (in), 10 READY (in), 11 ~{HOLD} (in), 12 ~{BIO} (in), 13 ~{TRST} (in), 14 VSSI (power), 15 VSSI (power), 16 MP/~{MC} (in), 17 D15 (io), 18 D14 (io), 19 D13 (io), 20 D12 (io), 21 D11 (io), 22 D10 (io), 23 D9 (io), 24 D8 (io), 25 VDDD (power), 26 VSSD (power), 27 VSSD (power), 28 D7 (io), 29 D6 (io), 30 D5 (io), 31 D4 (io), 32 D3 (io), 33 D2 (io), 34 D1 (io), 35 D0 (io), 36 TMS (in), 37 VDDD (power), 38 TCK (in), 39 VSSD (power), 40 VSSD (power), 41 ~{INT}1 (in), 42 ~{INT}2 (in), 43 ~{INT}3 (in), 44 ~{INT}4 (in), 45 ~{NMI} (in), 46 DR (in), 47 TDR (in), 48 FSR (in), 49 CLKR (in), 50 VDDA (power), 51 VSSA (power), 52 A0 (io), 53 A1 (io), 54 A2 (io), 55 A3 (io), 56 A4 (io), 57 A5 (io), 58 A6 (io), 59 A7 (io), 60 A8 (io), 61 A9 (io), 62 VDDI (power), 63 TDI (in), 64 VSSA (power), 65 VSSA (power), 66 CLKMD1 (in), 67 A10 (io), 68 A11 (io), 69 A12 (io), 70 A13 (io), 71 A14 (io), 72 A15 (io), 73 VDDA (power), 74 ~{RD} (hiz), 75 ~{WE} (hiz), 76 VSSC (power), 77 ~{DS} (hiz), 78 ~{IS} (hiz), 79 ~{PS} (hiz), 80 R/~{W} (io), 81 ~{STRB} (io), 82 ~{BR} (io), 83 CLKIN2 (in), 84 X2/CLKIN (in), 85 X1 (out), 86 VDDC (power), 87 TDO (hiz), 88 VSSI (power), 89 VSSI (power), 90 CLKMD2 (in), 91 FSX (io), 92 TFSX/TFRM (in), 93 DX (hiz), 94 TDX (hiz), 95 ~{HOLDA} (hiz), 96 XF (hiz), 97 CLKOUT1 (hiz), 98 VDDI (power), 99 VDDI (power), 100 VDDC (power)

## TMS320LBC51PZA
designator U?
Fixed DSP; ComponentAvailability: Obsolete; Published: 25-Jan-2001; LatestRevisionDate: 13-Apr-2006; LatestRevisionNote: IPC-7351 Footprint Added.; DatasheetVersion: Apr-1996; PackageVersion: Dec-1996; PackageReference: PZ100; Publisher: Altium Limited; PackageDescription: 100-Pin Thin Quad Flat Pack 0.5 mm Pitch; ComponentLink1Description: Manufacturer Link; ComponentLink1URL: http://www.ti.com/; ComponentLink2Description: Datasheet; ComponentLink2URL: http://www-s.ti.com/sc/ds/tms320lbc51.pdf
footprint PZ100_N (Thin QFP, 100-Leads, Body 14x14mm, Pitch 0.5mm, IPC Medium Density)
footprint PZ100_L (Thin QFP, 100-Leads, Body 14x14mm, Pitch 0.5mm, IPC High Density)
footprint PZ100_M (Thin QFP, 100-Leads, Body 14x14mm, Pitch 0.5mm, IPC Low Density)
3D model TMS320LBC51-PZ100 (100-Pin Thin Quad Flat Pack 0.5 mm Pitch)
pins: 1 EMU0 (io), 2 EMU1/~{OFF} (io), 3 VSSC (power), 4 TOUT (hiz), 5 TCLKX (io), 6 CLKX (io), 7 TFSR/TADD (io), 8 TCLKR (in), 9 ~{RS} (in), 10 READY (in), 11 ~{HOLD} (in), 12 ~{BIO} (in), 13 ~{TRST} (in), 14 VSSI (power), 15 VSSI (power), 16 MP/~{MC} (in), 17 D15 (io), 18 D14 (io), 19 D13 (io), 20 D12 (io), 21 D11 (io), 22 D10 (io), 23 D9 (io), 24 D8 (io), 25 VDDD (power), 26 VSSD (power), 27 VSSD (power), 28 D7 (io), 29 D6 (io), 30 D5 (io), 31 D4 (io), 32 D3 (io), 33 D2 (io), 34 D1 (io), 35 D0 (io), 36 TMS (in), 37 VDDD (power), 38 TCK (in), 39 VSSD (power), 40 VSSD (power), 41 ~{INT}1 (in), 42 ~{INT}2 (in), 43 ~{INT}3 (in), 44 ~{INT}4 (in), 45 ~{NMI} (in), 46 DR (in), 47 TDR (in), 48 FSR (in), 49 CLKR (in), 50 VDDA (power), 51 VSSA (power), 52 A0 (io), 53 A1 (io), 54 A2 (io), 55 A3 (io), 56 A4 (io), 57 A5 (io), 58 A6 (io), 59 A7 (io), 60 A8 (io), 61 A9 (io), 62 VDDI (power), 63 TDI (in), 64 VSSA (power), 65 VSSA (power), 66 CLKMD1 (in), 67 A10 (io), 68 A11 (io), 69 A12 (io), 70 A13 (io), 71 A14 (io), 72 A15 (io), 73 VDDA (power), 74 ~{RD} (hiz), 75 ~{WE} (hiz), 76 VSSC (power), 77 ~{DS} (hiz), 78 ~{IS} (hiz), 79 ~{PS} (hiz), 80 R/~{W} (io), 81 ~{STRB} (io), 82 ~{BR} (io), 83 CLKIN2 (in), 84 X2/CLKIN (in), 85 X1 (out), 86 VDDC (power), 87 TDO (hiz), 88 VSSI (power), 89 VSSI (power), 90 CLKMD2 (in), 91 FSX (io), 92 TFSX/TFRM (in), 93 DX (hiz), 94 TDX (hiz), 95 ~{HOLDA} (hiz), 96 XF (hiz), 97 CLKOUT1 (hiz), 98 VDDI (power), 99 VDDI (power), 100 VDDC (power)

## TMS320LBC51PZA57
designator U?
Fixed DSP; ComponentAvailability: Not For New Designs; Published: 25-Jan-2001; LatestRevisionDate: 13-Apr-2006; LatestRevisionNote: IPC-7351 Footprint Added.; DatasheetVersion: Apr-1996; PackageVersion: Dec-1996; PackageReference: PZ100; Publisher: Altium Limited; PackageDescription: 100-Pin Thin Quad Flat Pack 0.5 mm Pitch; ComponentLink1Description: Manufacturer Link; ComponentLink1URL: http://www.ti.com/; ComponentLink2Description: Datasheet; ComponentLink2URL: http://www-s.ti.com/sc/ds/tms320lbc51.pdf
footprint PZ100_N (Thin QFP, 100-Leads, Body 14x14mm, Pitch 0.5mm, IPC Medium Density)
footprint PZ100_L (Thin QFP, 100-Leads, Body 14x14mm, Pitch 0.5mm, IPC High Density)
footprint PZ100_M (Thin QFP, 100-Leads, Body 14x14mm, Pitch 0.5mm, IPC Low Density)
3D model TMS320LBC51-PZ100 (100-Pin Thin Quad Flat Pack 0.5 mm Pitch)
pins: 1 EMU0 (io), 2 EMU1/~{OFF} (io), 3 VSSC (power), 4 TOUT (hiz), 5 TCLKX (io), 6 CLKX (io), 7 TFSR/TADD (io), 8 TCLKR (in), 9 ~{RS} (in), 10 READY (in), 11 ~{HOLD} (in), 12 ~{BIO} (in), 13 ~{TRST} (in), 14 VSSI (power), 15 VSSI (power), 16 MP/~{MC} (in), 17 D15 (io), 18 D14 (io), 19 D13 (io), 20 D12 (io), 21 D11 (io), 22 D10 (io), 23 D9 (io), 24 D8 (io), 25 VDDD (power), 26 VSSD (power), 27 VSSD (power), 28 D7 (io), 29 D6 (io), 30 D5 (io), 31 D4 (io), 32 D3 (io), 33 D2 (io), 34 D1 (io), 35 D0 (io), 36 TMS (in), 37 VDDD (power), 38 TCK (in), 39 VSSD (power), 40 VSSD (power), 41 ~{INT}1 (in), 42 ~{INT}2 (in), 43 ~{INT}3 (in), 44 ~{INT}4 (in), 45 ~{NMI} (in), 46 DR (in), 47 TDR (in), 48 FSR (in), 49 CLKR (in), 50 VDDA (power), 51 VSSA (power), 52 A0 (io), 53 A1 (io), 54 A2 (io), 55 A3 (io), 56 A4 (io), 57 A5 (io), 58 A6 (io), 59 A7 (io), 60 A8 (io), 61 A9 (io), 62 VDDI (power), 63 TDI (in), 64 VSSA (power), 65 VSSA (power), 66 CLKMD1 (in), 67 A10 (io), 68 A11 (io), 69 A12 (io), 70 A13 (io), 71 A14 (io), 72 A15 (io), 73 VDDA (power), 74 ~{RD} (hiz), 75 ~{WE} (hiz), 76 VSSC (power), 77 ~{DS} (hiz), 78 ~{IS} (hiz), 79 ~{PS} (hiz), 80 R/~{W} (io), 81 ~{STRB} (io), 82 ~{BR} (io), 83 CLKIN2 (in), 84 X2/CLKIN (in), 85 X1 (out), 86 VDDC (power), 87 TDO (hiz), 88 VSSI (power), 89 VSSI (power), 90 CLKMD2 (in), 91 FSX (io), 92 TFSX/TFRM (in), 93 DX (hiz), 94 TDX (hiz), 95 ~{HOLDA} (hiz), 96 XF (hiz), 97 CLKOUT1 (hiz), 98 VDDI (power), 99 VDDI (power), 100 VDDC (power)

## TMS320LC203PZ
designator U?
Fixed DSP; Published: 25-Jan-2001; LatestRevisionDate: 13-Apr-2006; LatestRevisionNote: IPC-7351 Footprint Added.; DatasheetVersion: Aug-1998; PackageVersion: Dec-1996; PackageReference: PZ100; Publisher: Altium Limited; PackageDescription: 100-Pin Thin Quad Flat Pack 0.5 mm Pitch; ComponentLink1Description: Manufacturer Link; ComponentLink1URL: http://www.ti.com/; ComponentLink2Description: Datasheet; ComponentLink2URL: http://www-s.ti.com/sc/ds/tms320c203.pdf
footprint PZ100_N (Thin QFP, 100-Leads, Body 14x14mm, Pitch 0.5mm, IPC Medium Density)
footprint PZ100_L (Thin QFP, 100-Leads, Body 14x14mm, Pitch 0.5mm, IPC High Density)
footprint PZ100_M (Thin QFP, 100-Leads, Body 14x14mm, Pitch 0.5mm, IPC Low Density)
3D model TMS320LC203-PZ100 (100-Pin Thin Quad Flat Pack 0.5 mm Pitch)
pins: 1 TEST (in), 2 ~{BOOT} (in), 3 DIV1 (in), 4 VDD (power), 5 DIV2 (in), 6 ~{HOLDA} (hiz), 7 VDD (power), 8 IO2 (io), 9 IO3 (io), 10 PLL5V (in), 11 VDD (power), 12 CLKIN/X2 (in), 13 X1 (out), 14 VSS (power), 15 CLKOUT1 (hiz), 16 VDD (power), 17 ~{NMI} (in), 18 ~{HOLD}/~{INT}1 (in), 19 ~{INT}2 (in), 20 ~{INT}3 (in), 21 VSS (power), 22 D0 (io), 23 D1 (io), 24 D2 (io), 25 VSS (power), 26 D3 (io), 27 D4 (io), 28 D5 (io), 29 D6 (io), 30 VSS (power), 31 D7 (io), 32 D8 (io), 33 D9 (io), 34 D10 (io), 35 VDD (power), 36 D11 (io), 37 VSS (power), 38 D12 (io), 39 D13 (io), 40 D14 (io), 41 D15 (io), 42 VSS (power), 43 ~{BR} (hiz), 44 ~{WE} (hiz), 45 ~{RD} (hiz), 46 ~{STRB} (hiz), 47 R/~{W} (hiz), 48 VSS (power), 49 READY (in), 50 VDD (power), 51 ~{DS} (hiz), 52 ~{IS} (hiz), 53 ~{PS} (hiz), 54 VSS (power), 55 A0 (hiz), 56 A1 (hiz), 57 A2 (hiz), 58 A3 (hiz), 59 VSS (power), 60 A4 (hiz), 61 A5 (hiz), 62 A6 (hiz), 63 VDD (power), 64 A7 (hiz), 65 VSS (power), 66 A8 (hiz), 67 A9 (hiz), 68 A10 (hiz), 69 A11 (hiz), 70 VSS (power), 71 A12 (hiz), 72 A13 (hiz), 73 A14 (hiz), 74 A15 (hiz), 75 VDD (power), 76 EMU0 (io), 77 EMU1/~{OFF} (io), 78 TCK (in), 79 ~{TRST} (in), 80 TDI (in), 81 TMS (in), 82 TDO (hiz), 83 VSS (power), 84 CLKR (in), 85 FSR (in), 86 DR (in), 87 CLKX (io), 88 VSS (power), 89 FSX (io), 90 DX (out), 91 VDD (power), 92 TOUT (out), 93 TX (out), 94 VSS (power), 95 RX (in), 96 IO0 (io), 97 IO1 (io), 98 XF (hiz), 99 ~{BIO} (in), 100 ~{RS} (in)

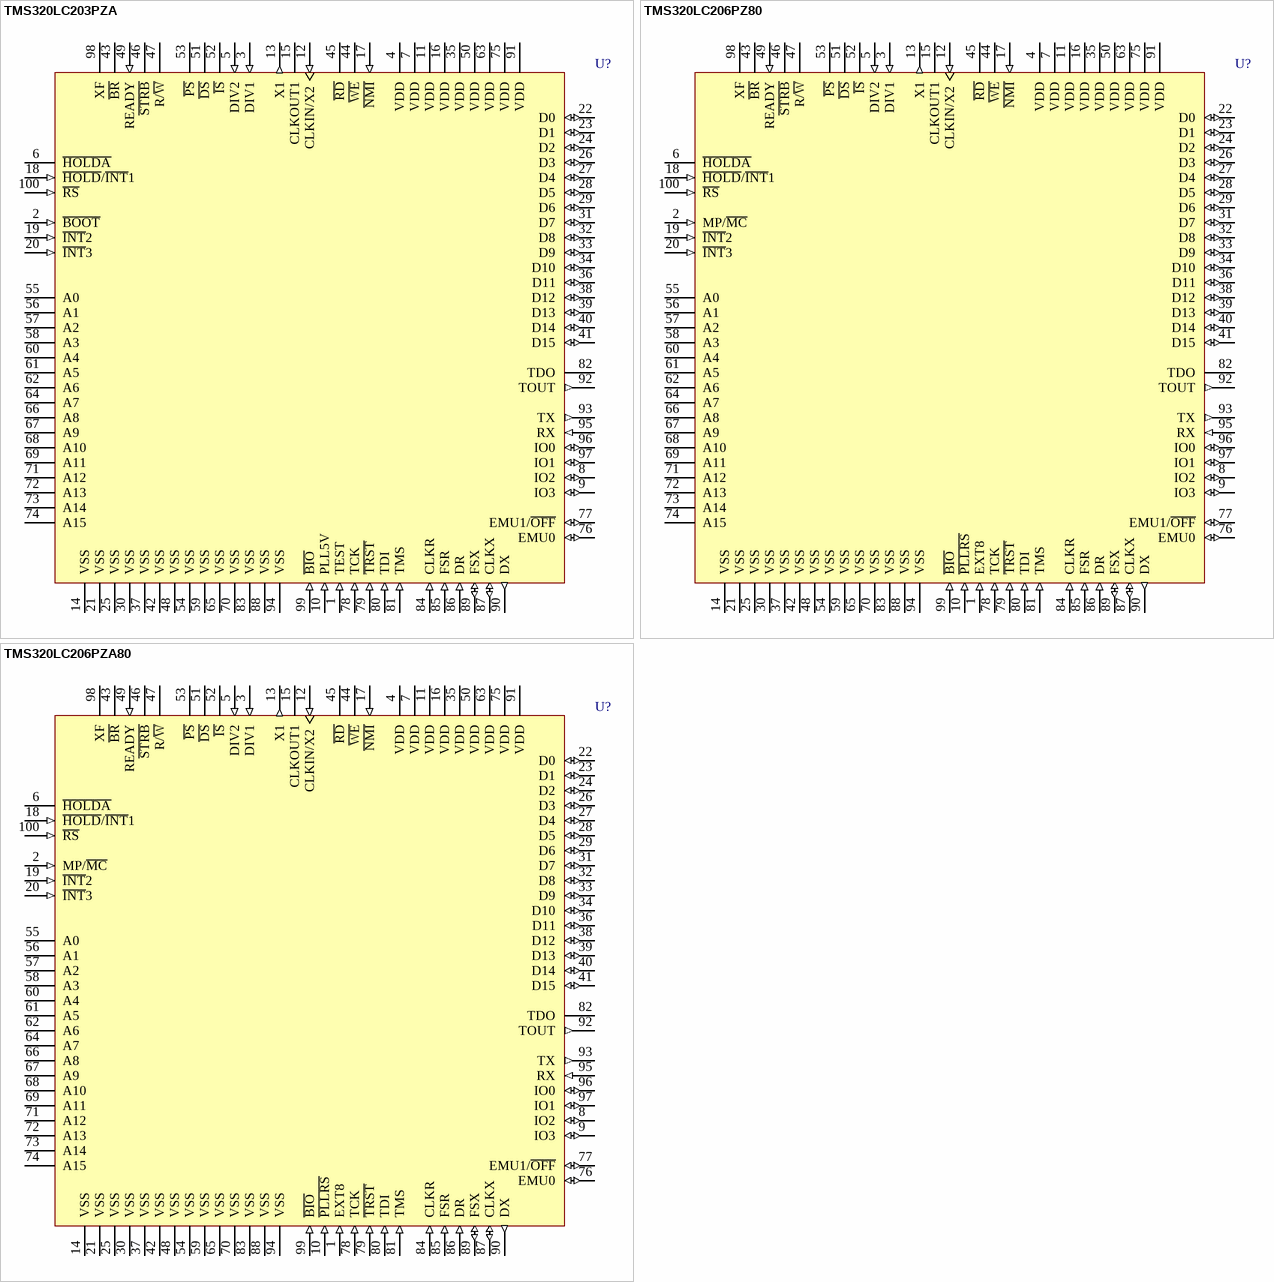
[diagram p10: symbols TMS320LC203PZA to TMS320LC206PZA80]

## TMS320LC203PZA
designator U?
Fixed DSP; Published: 25-Jan-2001; LatestRevisionDate: 13-Apr-2006; LatestRevisionNote: IPC-7351 Footprint Added.; DatasheetVersion: Aug-1998; PackageVersion: Dec-1996; PackageReference: PZ100; Publisher: Altium Limited; PackageDescription: 100-Pin Thin Quad Flat Pack 0.5 mm Pitch; ComponentLink1Description: Manufacturer Link; ComponentLink1URL: http://www.ti.com/; ComponentLink2Description: Datasheet; ComponentLink2URL: http://www-s.ti.com/sc/ds/tms320c203.pdf
footprint PZ100_N (Thin QFP, 100-Leads, Body 14x14mm, Pitch 0.5mm, IPC Medium Density)
footprint PZ100_L (Thin QFP, 100-Leads, Body 14x14mm, Pitch 0.5mm, IPC High Density)
footprint PZ100_M (Thin QFP, 100-Leads, Body 14x14mm, Pitch 0.5mm, IPC Low Density)
3D model TMS320LC203-PZ100 (100-Pin Thin Quad Flat Pack 0.5 mm Pitch)
pins: 1 TEST (in), 2 ~{BOOT} (in), 3 DIV1 (in), 4 VDD (power), 5 DIV2 (in), 6 ~{HOLDA} (hiz), 7 VDD (power), 8 IO2 (io), 9 IO3 (io), 10 PLL5V (in), 11 VDD (power), 12 CLKIN/X2 (in), 13 X1 (out), 14 VSS (power), 15 CLKOUT1 (hiz), 16 VDD (power), 17 ~{NMI} (in), 18 ~{HOLD}/~{INT}1 (in), 19 ~{INT}2 (in), 20 ~{INT}3 (in), 21 VSS (power), 22 D0 (io), 23 D1 (io), 24 D2 (io), 25 VSS (power), 26 D3 (io), 27 D4 (io), 28 D5 (io), 29 D6 (io), 30 VSS (power), 31 D7 (io), 32 D8 (io), 33 D9 (io), 34 D10 (io), 35 VDD (power), 36 D11 (io), 37 VSS (power), 38 D12 (io), 39 D13 (io), 40 D14 (io), 41 D15 (io), 42 VSS (power), 43 ~{BR} (hiz), 44 ~{WE} (hiz), 45 ~{RD} (hiz), 46 ~{STRB} (hiz), 47 R/~{W} (hiz), 48 VSS (power), 49 READY (in), 50 VDD (power), 51 ~{DS} (hiz), 52 ~{IS} (hiz), 53 ~{PS} (hiz), 54 VSS (power), 55 A0 (hiz), 56 A1 (hiz), 57 A2 (hiz), 58 A3 (hiz), 59 VSS (power), 60 A4 (hiz), 61 A5 (hiz), 62 A6 (hiz), 63 VDD (power), 64 A7 (hiz), 65 VSS (power), 66 A8 (hiz), 67 A9 (hiz), 68 A10 (hiz), 69 A11 (hiz), 70 VSS (power), 71 A12 (hiz), 72 A13 (hiz), 73 A14 (hiz), 74 A15 (hiz), 75 VDD (power), 76 EMU0 (io), 77 EMU1/~{OFF} (io), 78 TCK (in), 79 ~{TRST} (in), 80 TDI (in), 81 TMS (in), 82 TDO (hiz), 83 VSS (power), 84 CLKR (in), 85 FSR (in), 86 DR (in), 87 CLKX (io), 88 VSS (power), 89 FSX (io), 90 DX (out), 91 VDD (power), 92 TOUT (out), 93 TX (out), 94 VSS (power), 95 RX (in), 96 IO0 (io), 97 IO1 (io), 98 XF (hiz), 99 ~{BIO} (in), 100 ~{RS} (in)

## TMS320LC206PZ80
designator U?
Fixed DSP; Published: 25-Jan-2001; LatestRevisionDate: 13-Apr-2006; LatestRevisionNote: IPC-7351 Footprint Added.; DatasheetVersion: Jan-1999; PackageVersion: Dec-1996; PackageReference: PZ100; Publisher: Altium Limited; PackageDescription: 100-Pin Thin Quad Flat Pack 0.5 mm Pitch; ComponentLink1Description: Manufacturer Link; ComponentLink1URL: http://www.ti.com/; ComponentLink2Description: Datasheet; ComponentLink2URL: http://www-s.ti.com/sc/ds/tms320lc206.pdf
footprint PZ100_N (Thin QFP, 100-Leads, Body 14x14mm, Pitch 0.5mm, IPC Medium Density)
footprint PZ100_L (Thin QFP, 100-Leads, Body 14x14mm, Pitch 0.5mm, IPC High Density)
footprint PZ100_M (Thin QFP, 100-Leads, Body 14x14mm, Pitch 0.5mm, IPC Low Density)
3D model TMS320LC206-PZ100 (100-Pin Thin Quad Flat Pack 0.5 mm Pitch)
pins: 1 EXT8 (in), 2 MP/~{MC} (in), 3 DIV1 (in), 4 VDD (power), 5 DIV2 (in), 6 ~{HOLDA} (hiz), 7 VDD (power), 8 IO2 (io), 9 IO3 (io), 10 ~{PLLRS} (in), 11 VDD (power), 12 CLKIN/X2 (in), 13 X1 (out), 14 VSS (power), 15 CLKOUT1 (hiz), 16 VDD (power), 17 ~{NMI} (in), 18 ~{HOLD}/~{INT}1 (in), 19 ~{INT}2 (in), 20 ~{INT}3 (in), 21 VSS (power), 22 D0 (io), 23 D1 (io), 24 D2 (io), 25 VSS (power), 26 D3 (io), 27 D4 (io), 28 D5 (io), 29 D6 (io), 30 VSS (power), 31 D7 (io), 32 D8 (io), 33 D9 (io), 34 D10 (io), 35 VDD (power), 36 D11 (io), 37 VSS (power), 38 D12 (io), 39 D13 (io), 40 D14 (io), 41 D15 (io), 42 VSS (power), 43 ~{BR} (hiz), 44 ~{WE} (hiz), 45 ~{RD} (hiz), 46 ~{STRB} (hiz), 47 R/~{W} (hiz), 48 VSS (power), 49 READY (in), 50 VDD (power), 51 ~{DS} (hiz), 52 ~{IS} (hiz), 53 ~{PS} (hiz), 54 VSS (power), 55 A0 (hiz), 56 A1 (hiz), 57 A2 (hiz), 58 A3 (hiz), 59 VSS (power), 60 A4 (hiz), 61 A5 (hiz), 62 A6 (hiz), 63 VDD (power), 64 A7 (hiz), 65 VSS (power), 66 A8 (hiz), 67 A9 (hiz), 68 A10 (hiz), 69 A11 (hiz), 70 VSS (power), 71 A12 (hiz), 72 A13 (hiz), 73 A14 (hiz), 74 A15 (hiz), 75 VDD (power), 76 EMU0 (io), 77 EMU1/~{OFF} (io), 78 TCK (in), 79 ~{TRST} (in), 80 TDI (in), 81 TMS (in), 82 TDO (hiz), 83 VSS (power), 84 CLKR (in), 85 FSR (in), 86 DR (in), 87 CLKX (io), 88 VSS (power), 89 FSX (io), 90 DX (out), 91 VDD (power), 92 TOUT (out), 93 TX (out), 94 VSS (power), 95 RX (in), 96 IO0 (io), 97 IO1 (io), 98 XF (hiz), 99 ~{BIO} (in), 100 ~{RS} (in)

## TMS320LC206PZA80
designator U?
Fixed DSP; Published: 25-Jan-2001; LatestRevisionDate: 13-Apr-2006; LatestRevisionNote: IPC-7351 Footprint Added.; DatasheetVersion: Jan-1999; PackageVersion: Dec-1996; PackageReference: PZ100; Publisher: Altium Limited; PackageDescription: 100-Pin Thin Quad Flat Pack 0.5 mm Pitch; ComponentLink1Description: Manufacturer Link; ComponentLink1URL: http://www.ti.com/; ComponentLink2Description: Datasheet; ComponentLink2URL: http://www-s.ti.com/sc/ds/tms320lc206.pdf
footprint PZ100_N (Thin QFP, 100-Leads, Body 14x14mm, Pitch 0.5mm, IPC Medium Density)
footprint PZ100_L (Thin QFP, 100-Leads, Body 14x14mm, Pitch 0.5mm, IPC High Density)
footprint PZ100_M (Thin QFP, 100-Leads, Body 14x14mm, Pitch 0.5mm, IPC Low Density)
3D model TMS320LC206-PZ100 (100-Pin Thin Quad Flat Pack 0.5 mm Pitch)
pins: 1 EXT8 (in), 2 MP/~{MC} (in), 3 DIV1 (in), 4 VDD (power), 5 DIV2 (in), 6 ~{HOLDA} (hiz), 7 VDD (power), 8 IO2 (io), 9 IO3 (io), 10 ~{PLLRS} (in), 11 VDD (power), 12 CLKIN/X2 (in), 13 X1 (out), 14 VSS (power), 15 CLKOUT1 (hiz), 16 VDD (power), 17 ~{NMI} (in), 18 ~{HOLD}/~{INT}1 (in), 19 ~{INT}2 (in), 20 ~{INT}3 (in), 21 VSS (power), 22 D0 (io), 23 D1 (io), 24 D2 (io), 25 VSS (power), 26 D3 (io), 27 D4 (io), 28 D5 (io), 29 D6 (io), 30 VSS (power), 31 D7 (io), 32 D8 (io), 33 D9 (io), 34 D10 (io), 35 VDD (power), 36 D11 (io), 37 VSS (power), 38 D12 (io), 39 D13 (io), 40 D14 (io), 41 D15 (io), 42 VSS (power), 43 ~{BR} (hiz), 44 ~{WE} (hiz), 45 ~{RD} (hiz), 46 ~{STRB} (hiz), 47 R/~{W} (hiz), 48 VSS (power), 49 READY (in), 50 VDD (power), 51 ~{DS} (hiz), 52 ~{IS} (hiz), 53 ~{PS} (hiz), 54 VSS (power), 55 A0 (hiz), 56 A1 (hiz), 57 A2 (hiz), 58 A3 (hiz), 59 VSS (power), 60 A4 (hiz), 61 A5 (hiz), 62 A6 (hiz), 63 VDD (power), 64 A7 (hiz), 65 VSS (power), 66 A8 (hiz), 67 A9 (hiz), 68 A10 (hiz), 69 A11 (hiz), 70 VSS (power), 71 A12 (hiz), 72 A13 (hiz), 73 A14 (hiz), 74 A15 (hiz), 75 VDD (power), 76 EMU0 (io), 77 EMU1/~{OFF} (io), 78 TCK (in), 79 ~{TRST} (in), 80 TDI (in), 81 TMS (in), 82 TDO (hiz), 83 VSS (power), 84 CLKR (in), 85 FSR (in), 86 DR (in), 87 CLKX (io), 88 VSS (power), 89 FSX (io), 90 DX (out), 91 VDD (power), 92 TOUT (out), 93 TX (out), 94 VSS (power), 95 RX (in), 96 IO0 (io), 97 IO1 (io), 98 XF (hiz), 99 ~{BIO} (in), 100 ~{RS} (in)